# Altium footprint library MyPcbLib.PcbLib: 43 footprints (part 3 of 3)
Each footprint in its own frame and in the unit in brackets; x right, y up, seen from the top. Pads: shape width x height; smd on the part's side, far side on the other; paste and mask are expansions set on the pad; w line width, h text height; cw(c..) or ccw(c..) is an arc to the next point about the centre after c.
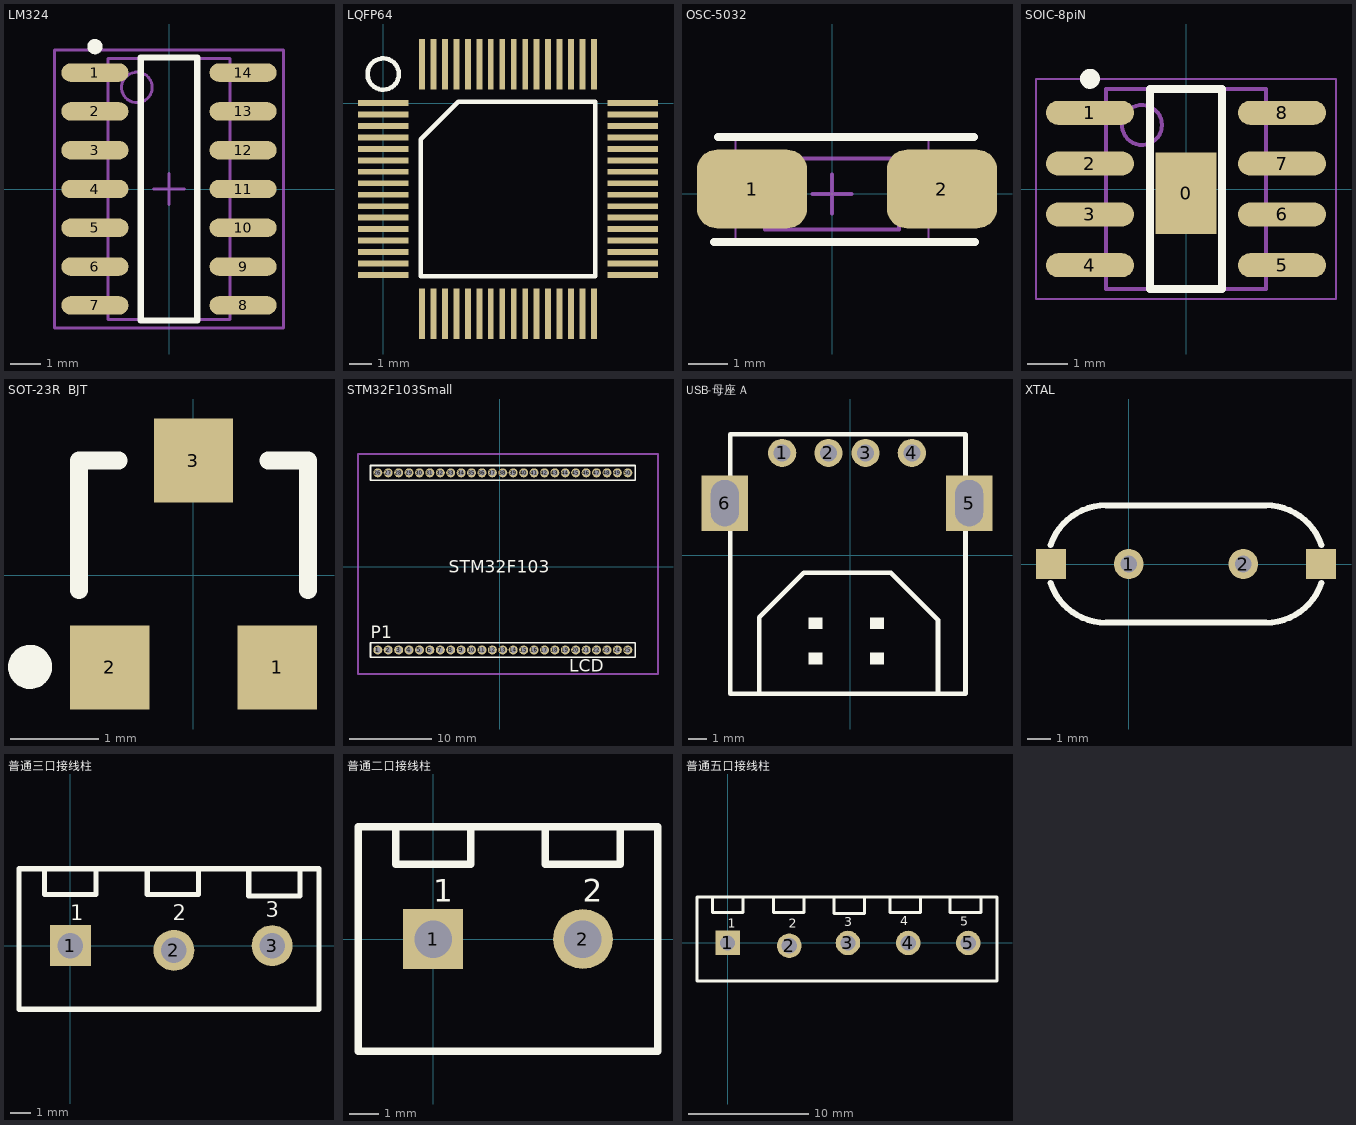
[diagram p2: the footprints below, top view; thin cyan lines are the x and y axes]

## LM324 [mm] "SOP, 14-Leads,"
height 1.75
pads (14):
  oval 2.2x0.6 smd: 1(-2.425,3.81) 2(-2.425,2.54) 3(-2.425,1.27) 4(-2.425,0) 5(-2.425,-1.27) 6(-2.425,-2.54) 7(-2.425,-3.81) 8(2.425,-3.81) 9(2.425,-2.54) 10(2.425,-1.27) 11(2.425,0) 12(2.425,1.27) 13(2.425,2.54) 14(2.425,3.81)
Top Overlay:
  circle w0.25: c-2.425,4.66 r0.125
  lines w0.2: -0.925,-4.3 -0.925,4.3 0.925,4.3 0.925,-4.3 -0.925,-4.3
Mechanical 13:
  circle w0.1: c-1.05,3.325 r0.5
  lines w0.1: -2,-4.275 -2,4.275 2,4.275 2,-4.275 -2,-4.275
Mechanical 15:
  lines w0.1: -0.5,0 0.5,0 ; 0,-0.5 0,0.5 ; -3.75,-4.55 -3.75,4.55 3.75,4.55 3.75,-4.55 -3.75,-4.55
3D body: height 1.75, standoff 0.2, extent -2,-4.275 2,4.275

## LQFP64 [mm]
pads (64):
  rect 2.2x0.254 smd: 1(0,0) 2(0,-0.5) 3(0,-1) 4(0,-1.5) 5(0,-2) 6(0,-2.5) 7(0,-3) 8(0,-3.5) 9(0,-4) 10(0,-4.5) 11(0,-5) 12(0,-5.5) 13(0,-6) 14(0,-6.5) 15(0,-7) 16(0,-7.5) 33(10.9,-7.5) 34(10.9,-7) 35(10.9,-6.5) 36(10.9,-6) 37(10.9,-5.5) 38(10.9,-5) 39(10.9,-4.5) 40(10.9,-4) 41(10.9,-3.5) 42(10.9,-3) 43(10.9,-2.5) 44(10.9,-2) 45(10.9,-1.5) 46(10.9,-1) 47(10.9,-0.5) 48(10.9,0)
  rect 0.254x2.2 smd: 17(1.7,-9.2) 18(2.2,-9.2) 19(2.7,-9.2) 20(3.2,-9.2) 21(3.7,-9.2) 22(4.2,-9.2) 23(4.7,-9.2) 24(5.2,-9.2) 25(5.7,-9.2) 26(6.2,-9.2) 27(6.7,-9.2) 28(7.2,-9.2) 29(7.7,-9.2) 30(8.2,-9.2) 31(8.7,-9.2) 32(9.2,-9.2) 49(9.2,1.7) 50(8.7,1.7) 51(8.2,1.7) 52(7.7,1.7) 53(7.2,1.7) 54(6.7,1.7) 55(6.2,1.7) 56(5.7,1.7) 57(5.2,1.7) 58(4.7,1.7) 59(4.2,1.7) 60(3.7,1.7) 61(3.2,1.7) 62(2.7,1.7) 63(2.2,1.7) 64(1.7,1.7)
Top Overlay:
  circle w0.2: c0,1.27 r0.684
  lines w0.2: 1.635,-7.565 1.635,-1.57 3.27,0.065 9.265,0.065 9.265,-7.565 1.635,-7.565

## OSC-5032 [mm] "Molded Capacitor, 2-Leads, Body 3.20x1.60mm, IPC Medium Density"
height 1.8
pads (2):
  rrect50% 2.8x2 smd: 1(-2.032,0.127) 2(2.794,0.127)
Top Overlay:
  lines w0.2: -2.997,-1.219 3.632,-1.219 ; -2.896,1.448 3.607,1.448
Mechanical 13:
  lines w0.1: -1.7,-0.9 -1.7,0.9 1.7,0.9 1.7,-0.9 -1.7,-0.9
Mechanical 15:
  lines w0.05: -2.45,-1.2 -2.45,1.422 2.45,1.422 2.45,-1.2 -2.45,-1.2
  lines w0.1: -0.5,0 0.5,0 ; 0,-0.5 0,0.5
3D body: height 1.8, standoff 0, extent -1.651,-0.762 2.692,1.041

## SOIC-8piN [mm] "SOIC, 8-Leads, Body 4.90x3.90mm, Pitch 1.27mm, IPC Medium Density"
height 1.7
pads (9):
  rect 1.528x2.036 smd: 0(0,-0.102)
  oval 2.2x0.6 smd: 1(-2.4,1.905) 2(-2.4,0.635) 3(-2.4,-0.635) 4(-2.4,-1.905) 5(2.4,-1.905) 6(2.4,-0.635) 7(2.4,0.635) 8(2.4,1.905)
Top Overlay:
  circle w0.25: c-2.4,2.755 r0.125
  lines w0.2: -0.9,-2.5 0.9,-2.5 0.9,2.5 -0.9,2.5 -0.9,-2.5
Mechanical 13:
  circle w0.1: c-1.1,1.6 r0.5
  lines w0.1: -2,-2.5 2,-2.5 2,2.5 -2,2.5 -2,-2.5
Mechanical 15:
  lines w0.05: -3.75,-2.75 3.75,-2.75 3.75,2.75 -3.75,2.75 -3.75,-2.75
  lines w0.1: -0.5,0 0.5,0 ; 0,-0.5 0,0.5
3D body: height 1.7, standoff 0.25, extent -2,-2.5 2,2.5

## SOT-23R  BJT [mm]
pads (3):
  rect 0.9x0.95 smd: 1(0.95,-1.048) 2(-0.95,-1.048) 3(0,1.302)
Top Overlay:
  circle w0.25: c-1.856,-1.041 r0.125
  lines w0.2: -1.3,-0.173 -1.3,1.302 -0.85,1.302 ; 0.85,1.302 1.3,1.302 1.3,-0.173

## STM32F103Small [mm]
pads (50):
  round 1.1 hole 0.7: 1(-14.859,-10.16) 2(-13.589,-10.16) 3(-12.319,-10.16) 4(-11.049,-10.16) 5(-9.779,-10.16) 6(-8.509,-10.16) 7(-7.239,-10.16) 8(-5.969,-10.16) 9(-4.699,-10.16) 10(-3.429,-10.16) 11(-2.159,-10.16) 12(-0.889,-10.16) 13(0.381,-10.16) 14(1.651,-10.16) 15(2.921,-10.16) 16(4.191,-10.16) 17(5.461,-10.16) 18(6.731,-10.16) 19(8.001,-10.16) 20(9.271,-10.16) 21(10.541,-10.16) 22(11.811,-10.16) 23(13.081,-10.16) 24(14.351,-10.16) 25(15.621,-10.16) 26(-14.859,11.43) 27(-13.589,11.43) 28(-12.319,11.43) 29(-11.049,11.43) 30(-9.779,11.43) 31(-8.509,11.43) 32(-7.239,11.43) 33(-5.969,11.43) 34(-4.699,11.43) 35(-3.429,11.43) 36(-2.159,11.43) 37(-0.889,11.43) 38(0.381,11.43) 39(1.651,11.43) 40(2.921,11.43) 41(4.191,11.43) 42(5.461,11.43) 43(6.731,11.43) 44(8.001,11.43) 45(9.271,11.43) 46(10.541,11.43) 47(11.811,11.43) 48(13.081,11.43) 49(14.351,11.43) 50(15.621,11.43)
Top Overlay:
  lines w0.2: -15.748,-11.049 16.51,-11.049 16.51,-9.271 -15.748,-9.271 -15.748,-11.049 ; -15.748,10.541 16.51,10.541 16.51,12.319 -15.748,12.319 -15.748,10.541
  text "LCD" at 8.509,-12.827 h1.52
  text "P1" at -15.748,-8.763 h1.52
  text "STM32F103" at -6.223,-0.762 h1.52
Mechanical 15:
  lines w0.254: -17.272,-13.081 -17.272,13.716 19.304,13.716 19.304,-13.081 -17.272,-13.081

## USB-母座 A [mm]
pads (6):
  round 1.524 hole 0.92: 1(-3.678,5.521) 2(-1.178,5.521) 3(0.822,5.521) 4(3.322,5.521)
  rect 2.5x3 hole 1.5 slot 2.5 at 90 deg: 5(6.422,2.811) 6(-6.778,2.811)
Top Overlay:
  rectangle: -2.25,-3.993 -1.488,-3.358
  rectangle: 1.052,-3.993 1.814,-3.358
  rectangle: 1.052,-5.898 1.814,-5.263
  rectangle: -2.25,-5.898 -1.488,-5.263
  lines w0.254: -4.917,-7.439 -4.917,-3.358 -2.504,-0.945 2.195,-0.945 4.735,-3.485 4.735,-7.439 ; -6.476,-7.479 6.224,-7.479 6.224,6.531 -6.476,6.531 -6.476,-7.479

## XTAL [mil]
pads (4):
  round 50 hole 28: 1(0,0) 2(192.13,0)
  rect 50x50 smd: ""(-130.32,0) ""(322.44,0)
Top Overlay:
  lines w10: -130.92,-31.85 ccw(c-37.79,0) -37.79,-98.42 ; -130.92,31.85 cw(c-37.79,0) -37.79,98.43 ; -38,98.42 229.92,98.43 cw(c229.92,0) 323.05,31.85 ; -37.8,-98.43 229.92,-98.42 ccw(c229.92,0) 323.05,-31.85

## 普通三口接线柱 [mil]
height 53.15
pads (3):
  rect 80x80 hole 50: 1(0,0)
  round 80 hole 50: 2(202,-9) 3(393.7,0)
Top Overlay:
  lines w10: -50,150 -50,100 50,100 50,150 ; 150,150 150,100 250,100 250,150 ; 348,147 348,97 448,97 448,147 ; -100,-124 485,-124 485,150 -100,150 -100,-124
  text "1" at 0,50 h30
  text "2" at 200,50 h30
  text "3" at 381,55 h30

## 普通二口接线柱 [mil]
height 53.15
pads (2):
  rect 80x80 hole 50: 1(0,0)
  round 80 hole 50: 2(200,0)
Top Overlay:
  lines w10: -50,150 -50,100 50,100 50,150 ; 150,150 150,100 250,100 250,150 ; -100,-150 300,-150 300,150 -100,150 -100,-150
  text "1" at 0,50 h30
  text "2" at 200,50 h30

## 普通五口接线柱 [mil]
height 53.15
pads (5):
  rect 80x80 hole 50: 1(0,0)
  round 80 hole 50: 2(202,-9) 3(393.7,0) 4(590.55,0) 5(787.4,0)
Top Overlay:
  lines w10: -50,150 -50,100 50,100 50,150 ; 150,150 150,100 250,100 250,150 ; 348,147 348,97 448,97 448,147 ; 531,150 531,100 631,100 631,150 ; 728,149 728,99 828,99 828,149 ; -100,-124 881,-124 881,150 -100,150 -100,-124
  text "1" at 0,50 h30
  text "2" at 200,50 h30
  text "3" at 381,55 h30
  text "4" at 564,58 h30
  text "5" at 761,57 h30